# Altium schematic symbol library TLV70033QDDCRQ1.SchLib: 2 symbols
Pins are listed as number, name and electrical type; pins without a type are passive.

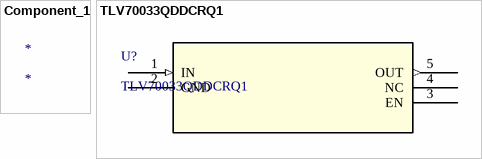
[diagram p0: symbols Component_1 to TLV70033QDDCRQ1]

## Component_1
designator *

## TLV70033QDDCRQ1
designator U?
No Description Available; Mfr_Name: Texas Instruments; Copyright: Copyright (C) 2023 Ultra Librarian. All rights reserved.; Manufacturer_Part_Number: TLV70033QDDCRQ1; Digi-Key_Part_Number_1: 296-27780-1-ND; Digi-Key_Part_Number_2: 296-27780-2-ND; Digi-Key_Part_Number_3: 296-27780-6-ND; RefDes: RefDes; Type: DEV
footprint DDC5_TEX
pins: 1 IN (in), 2 GND (power), 3 EN, 4 NC, 5 OUT (out)